# Altium footprint library WE-HCFA.PcbLib: 1 footprints
Each footprint in its own frame and in the unit in brackets; x right, y up, seen from the top. Pads: shape width x height; smd on the part's side, far side on the other; paste and mask are expansions set on the pad; w line width, h text height; cw(c..) or ccw(c..) is an arc to the next point about the centre after c.
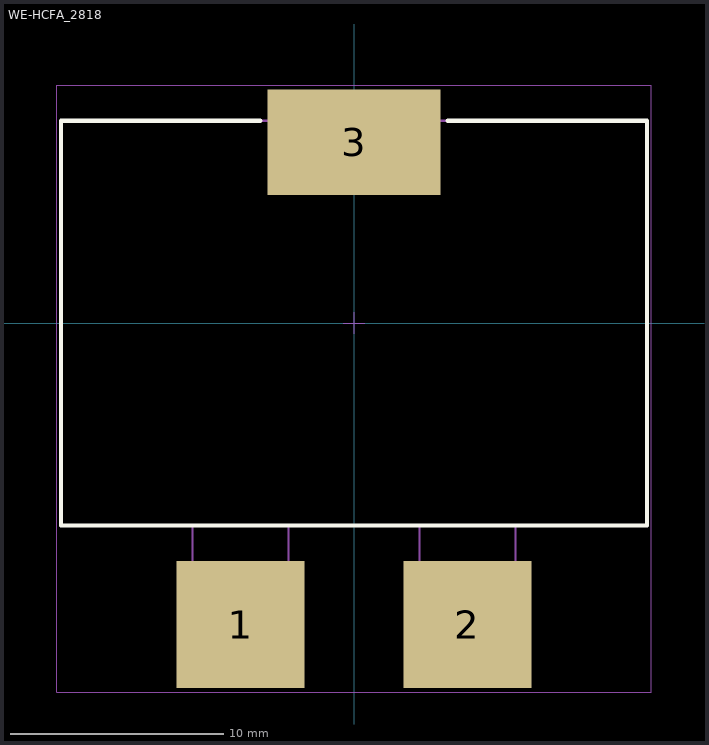
[diagram p0: the footprint, top view; thin cyan lines are the x and y axes]

## WE-HCFA_2818 [mm] "High Current Flat-Wire Inductor, body 27.5x27.5mm"
height 17
pads (3):
  rect 6x5.95 smd: 1(-5.325,-14.15) 2(5.325,-14.15)
  rect 8.1x4.95 smd: 3(0,8.5)
Top Overlay:
  lines w0.2: -4.4,9.5 -13.75,9.5 -13.75,-9.5 13.75,-9.5 13.75,9.5 4.4,9.5
Top Designator:
  text ".Designator" at -7.498,-0.5 h1.5
Top Component Outline:
  lines w0.1: -7.575,-9.5 -7.575,-15.9 -3.075,-15.9 -3.075,-9.5 ; 3.075,-9.5 3.075,-15.9 7.575,-15.9 7.575,-9.5 ; -13.75,-9.5 -13.75,9.5 13.75,9.5 13.75,-9.5 -13.75,-9.5
Top 3D Body:
  lines w0.1: -7.575,-9.5 -7.575,-15.9 -3.075,-15.9 -3.075,-9.5 ; 3.075,-9.5 3.075,-15.9 7.575,-15.9 7.575,-9.5 ; -13.75,-9.5 13.75,-9.5 13.75,9.5 -13.75,9.5 -13.75,-9.5
Top Courtyard:
  lines w0.05: -0.5,0 0.5,0 ; 0,-0.5 0,0.5 ; -13.95,-17.325 -13.95,11.175 13.95,11.175 13.95,-17.325 -13.95,-17.325
3D body "78436432010_R1.0.stp": height 16.53, standoff 0.03, extent -13.25,-15.9 13.25,10.75